# EAGLE library part MB85RS64 (library simpa)
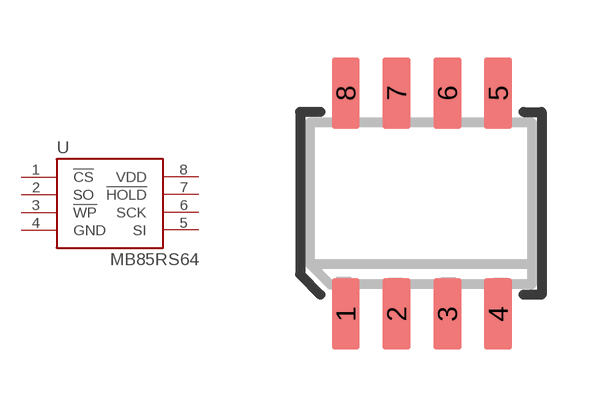
[diagram p6: symbol with the pads of SOP-8; footprint SOP-8]

Designator prefix U

## MB85RS64  [SOP-8]
1  !CS  pas
2  SO  pas
3  !WP  pas
4  GND  pas
5  SI  pas
6  SCK  pas
7  !HOLD  pas
8  VDD  pas

## Footprint SOP-8 (pad centres in mm)
smd 0.7 x 1.79: 1 -1.905,-2.765; 2 -0.635,-2.765; 3 0.635,-2.765; 4 1.905,-2.765; 5 1.905,2.765; 6 0.635,2.765; 7 -0.635,2.765; 8 -1.905,2.765